# Altium footprint library RPlan_LB.PcbLib: 39 footprints (part 3 of 3)
Each footprint in its own frame and in the unit in brackets; x right, y up, seen from the top. Pads: shape width x height; smd on the part's side, far side on the other; paste and mask are expansions set on the pad; w line width, h text height; cw(c..) or ccw(c..) is an arc to the next point about the centre after c.
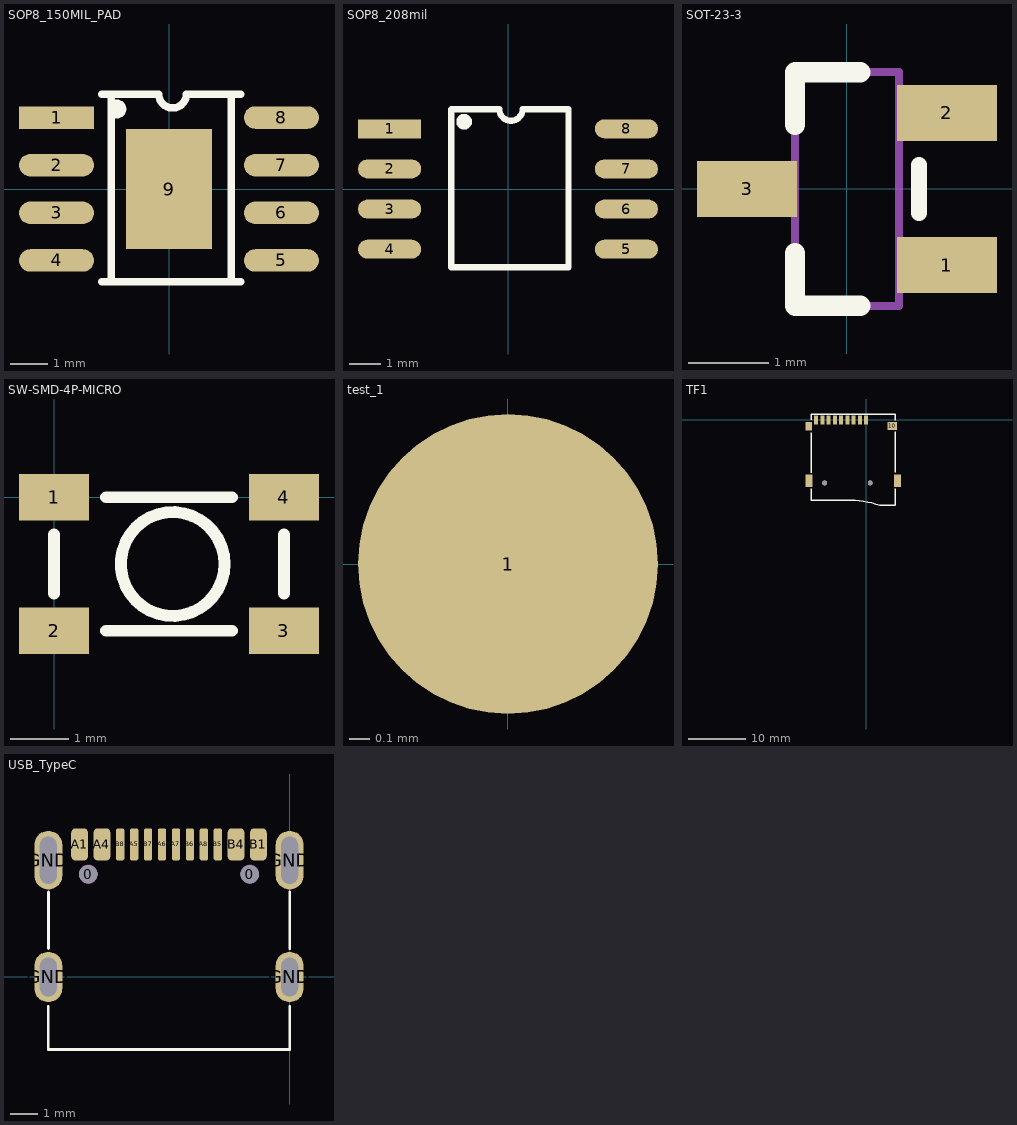
[diagram p2: the footprints below, top view; thin cyan lines are the x and y axes]

## SOP8_150MIL_PAD [mm]
height 1.27
pads (9):
  rect 2x0.6 smd: 1(-2.997,1.905)
  rrect100% 2x0.6 smd: 2(-2.997,0.635) 3(-2.997,-0.635) 4(-2.997,-1.905) 5(2.997,-1.905) 6(2.997,-0.635) 7(2.997,0.635) 8(2.997,1.905)
  rect 2.3x3.2 smd: 9(0,0)
Top Overlay:
  circle w0.25: c-1.388,2.132 r0.125
  lines w0.2: -1.794,-2.475 1.914,-2.475 ; -1.794,2.525 -0.272,2.525 ccw(c0.095,2.525) 0.461,2.525 1.914,2.525 ; -1.54,-2.475 -1.54,2.525 ; 1.66,-2.475 1.66,2.525
3D body "SOP8.STEP": height 1.6, standoff 0, extent -3.052,-2.5 2.99,2.52

## SOP8_208mil [mm]
height 1.27
pads (8):
  rect 2x0.6 smd: 1(-3.75,1.905)
  rrect100% 2x0.6 smd: 2(-3.75,0.635) 3(-3.75,-0.635) 4(-3.75,-1.905) 5(3.75,-1.905) 6(3.75,-0.635) 7(3.75,0.635) 8(3.75,1.905)
Top Overlay:
  circle w0.25: c-1.388,2.132 r0.125
  lines w0.2: -1.794,-2.475 1.914,-2.475 1.914,2.525 0.461,2.525 cw(c0.095,2.525) -0.272,2.525 -1.794,2.525 -1.794,-2.475
3D body "SOP8.STEP": height 1.6, standoff 0, extent -3.052,-2.5 2.99,2.52

## SOT-23-3 [mm]
height 2.54
pads (3):
  rect 1.25x0.7 smd: 1(1.25,-0.95) 2(1.25,0.95) 3(-1.25,0)
Top Overlay:
  lines w0.2: 0.9,-0.3 0.9,0.3
  lines w0.254: -0.65,-0.8 -0.65,-1.46 0.165,-1.46 ; 0.165,1.46 -0.65,1.46 ; -0.65,0.8 -0.65,1.46 ; -0.65,0.8 -0.65,1.46 ; -0.65,0.8 -0.65,1.46
Mechanical 13:
  lines w0.1: -0.65,-1.46 -0.65,1.46 ; -0.65,-1.46 0.65,-1.46 ; -0.65,-1.46 0.65,-1.46 ; -0.65,-1.46 -0.65,1.46 ; -0.65,-1.46 0.65,-1.46 ; -0.65,-1.46 -0.65,1.46 ; -0.65,1.46 0.65,1.46 ; -0.65,1.46 0.65,1.46 ; -0.65,1.46 0.65,1.46 ; 0.65,-1.46 0.65,1.46 ; 0.65,-1.46 0.65,1.46 ; 0.65,-1.46 0.65,1.46
3D body "SOT-23.step": height 1.3, standoff 0, extent -1.5,-1.5 1.5,1.5

## SW-SMD-4P-MICRO [mm]
pads (4):
  rect 1.2x0.8 smd: 1(0,0) 2(0,-2.286) 3(3.937,-2.286) 4(3.937,0)
Top Overlay:
  circle w0.203: c2.032,-1.143 r0.889
  lines w0.203: 0,-1.651 0,-0.635 ; 0.889,-2.286 3.048,-2.286 ; 0.889,0 3.048,0 ; 3.937,-1.651 3.937,-0.635

## test_1 [mm]
height 1
pads (1):
  round 1.5 smd: 1(0,0)

## TF1 [mm]
pads (15):
  rect 0.7x1.6 smd: 1(0,0) 2(-1.1,0) 3(-2.2,0) 4(-3.3,0) 5(-4.4,0) 6(-5.5,0) 7(-6.6,0) 8(-7.7,0) 9(-8.8,0)
  rect 1.2x1.5 smd: 10(-10.083,-1.16)
  rect 1.2x2.2 smd: 10(-10.033,-10.66) 10(5.467,-10.66)
  rect 1.6x1.4 smd: 10(4.567,-1.06)
  round 0.85 hole 0.85 unplated: NC(-7.283,-11.06) NC(0.717,-11.06)
Top Overlay:
  lines w0.254: -9.652,-12.057 -9.652,-14.089 -4.191,-14.089 ; -9.652,-9.263 -9.652,-2.278 ; -9.652,0.008 -9.652,1.024 5.08,1.024 5.08,-0.043 ; -4.191,-14.084 cw(c-3.365,-32.821) 2.413,-14.978 5.08,-14.978 5.08,-12.057 ; 5.08,-9.212 5.08,-2.049
3D body "sdcard.STEP": height 2.3, standoff -0.2, extent -10.423,-15.24 5.851,-0.045

## USB_TypeC [mm]
pads (18):
  round 0.65 hole 0.65 unplated: 0(-7.21,3.68) 0(-1.43,3.68)
  rrect50% 0.6x1.15 smd: A1(-7.52,4.745) A4(-6.72,4.745) B1(-1.12,4.745) B4(-1.92,4.745)
  rrect50% 0.3x1.15 smd: A5(-5.57,4.745) A6(-4.57,4.745) A7(-4.07,4.745) A8(-3.07,4.745) B5(-2.57,4.745) B6(-3.57,4.745) B7(-5.07,4.745) B8(-6.07,4.745)
  oval 1x1.8 hole 0.6 slot 1.4 at 90 deg: GND(-8.64,0) GND(0,0)
  oval 1x2.1 hole 0.6 slot 1.7 at 90 deg: GND(-8.64,4.18) GND(0,4.18)
Top Overlay:
  lines w0.1: -8.64,-1.044 -8.64,-2.6 0,-2.6 0,-1.056 ; -8.636,1.016 -8.636,3.044 ; 0,1.016 0,3.048
Top Paste:
  rectangle: -0.504,3.175 0.512,5.207
  rectangle: -0.504,-0.889 0.512,0.889
  rectangle: -9.144,-0.889 -8.128,0.889
  rectangle: -9.144,3.175 -8.128,5.207
Keep-Out Layer:
  circle w0.025: c-1.43,3.68 r0.325
  circle w0.025: c-7.21,3.68 r0.325
3D body "uj31-ch-g1-smt-tr.stp": height 3.3, standoff -1.16, extent -9.268,-3.777 0.632,6.223